# Altium footprint library Connector_PinHeader_2.00mm.PcbLib: 278 footprints (part 9 of 18)
Each footprint in its own frame and in the unit in brackets; x right, y up, seen from the top. Pads: shape width x height; smd on the part's side, far side on the other; paste and mask are expansions set on the pad; w line width, h text height; cw(c..) or ccw(c..) is an arc to the next point about the centre after c.
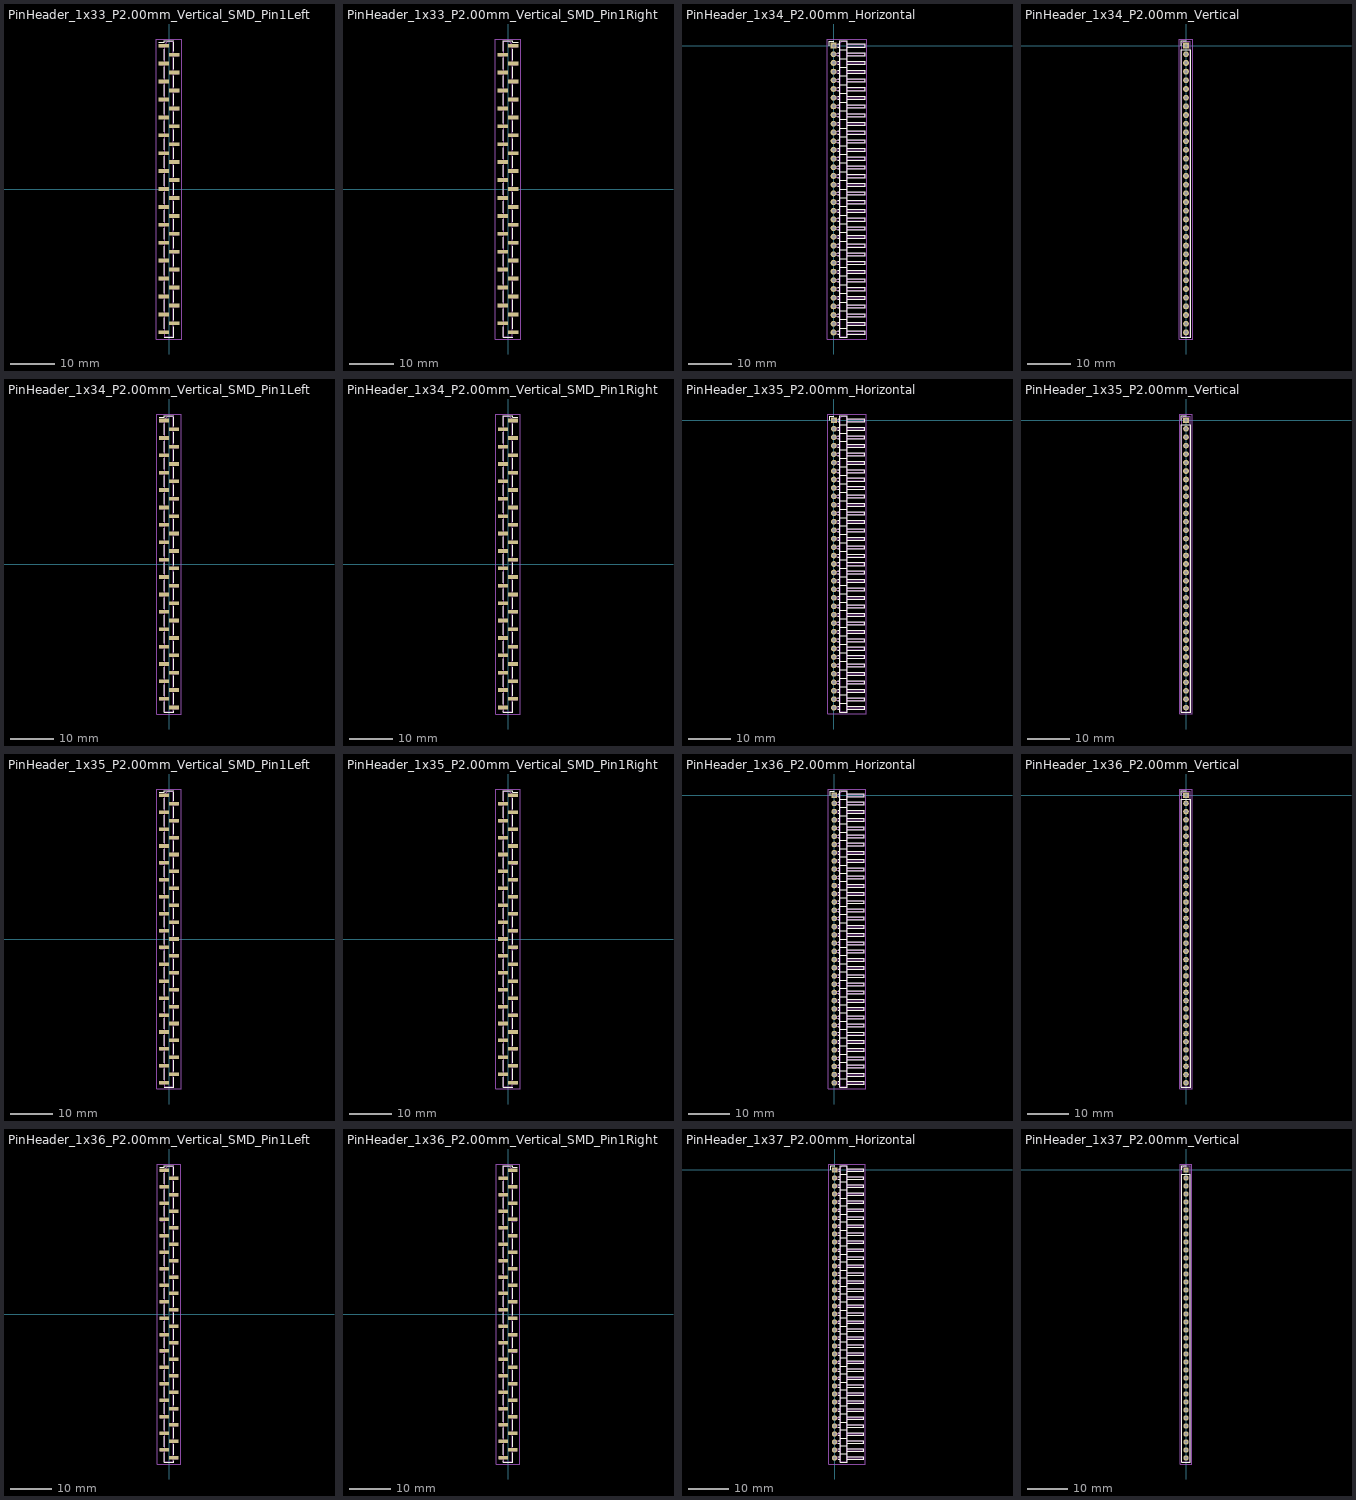
[diagram p8: the footprints below, top view; thin cyan lines are the x and y axes]

## PinHeader_1x33_P2.00mm_Vertical_SMD_Pin1Left [mm]
pads (33):
  rect 2.35x0.85 smd: 1(-1.175,32) 2(1.175,30) 3(-1.175,28) 4(1.175,26) 5(-1.175,24) 6(1.175,22) 7(-1.175,20) 8(1.175,18) 9(-1.175,16) 10(1.175,14) 11(-1.175,12) 12(1.175,10) 13(-1.175,8) 14(1.175,6) 15(-1.175,4) 16(1.175,2) 17(-1.175,0) 18(1.175,-2) 19(-1.175,-4) 20(1.175,-6) 21(-1.175,-8) 22(1.175,-10) 23(-1.175,-12) 24(1.175,-14) 25(-1.175,-16) 26(1.175,-18) 27(-1.175,-20) 28(1.175,-22) 29(-1.175,-24) 30(1.175,-26) 31(-1.175,-28) 32(1.175,-30) 33(-1.175,-32)
F.SilkS:
  lines w0.254: -2.29,32.735 -1.11,32.735 -1.11,33.11 1.11,33.11 ; -1.11,-33.11 1.11,-33.11 ; -1.11,-31.265 -1.11,-28.735 ; -1.11,-27.265 -1.11,-24.735 ; -1.11,-23.265 -1.11,-20.735 ; -1.11,-19.265 -1.11,-16.735 ; -1.11,-15.265 -1.11,-12.735 ; -1.11,-11.265 -1.11,-8.735 ; -1.11,-7.265 -1.11,-4.735 ; -1.11,-3.265 -1.11,-0.735 ; -1.11,0.735 -1.11,3.265 ; -1.11,4.735 -1.11,7.265 ; -1.11,8.735 -1.11,11.265 ; -1.11,12.735 -1.11,15.265 ; -1.11,16.735 -1.11,19.265 ; -1.11,20.735 -1.11,23.265 ; -1.11,24.735 -1.11,27.265 ; -1.11,28.735 -1.11,31.265 ; 1.11,-32.735 1.11,-33.11 ; 1.11,-30.735 1.11,-33.11 ; 1.11,-29.265 1.11,-26.735 ; 1.11,-25.265 1.11,-22.735 ; 1.11,-21.265 1.11,-18.735 ; 1.11,-17.265 1.11,-14.735 ; 1.11,-13.265 1.11,-10.735 ; 1.11,-9.265 1.11,-6.735 ; 1.11,-5.265 1.11,-2.735 ; 1.11,-1.265 1.11,1.265 ; 1.11,2.735 1.11,5.265 ; 1.11,6.735 1.11,9.265 ; 1.11,10.735 1.11,13.265 ; 1.11,14.735 1.11,17.265 ; 1.11,18.735 1.11,21.265 ; 1.11,22.735 1.11,25.265 ; 1.11,26.735 1.11,29.265 ; 1.11,30.735 1.11,32.735
Top Assembly:
  lines w0.254: -1,-32.25 -2.1,-32.25 -2.1,-31.75 -1,-31.75 ; -1,-28.25 -2.1,-28.25 -2.1,-27.75 -1,-27.75 ; -1,-24.25 -2.1,-24.25 -2.1,-23.75 -1,-23.75 ; -1,-20.25 -2.1,-20.25 -2.1,-19.75 -1,-19.75 ; -1,-16.25 -2.1,-16.25 -2.1,-15.75 -1,-15.75 ; -1,-12.25 -2.1,-12.25 -2.1,-11.75 -1,-11.75 ; -1,-8.25 -2.1,-8.25 -2.1,-7.75 -1,-7.75 ; -1,-4.25 -2.1,-4.25 -2.1,-3.75 -1,-3.75 ; -1,-0.25 -2.1,-0.25 -2.1,0.25 -1,0.25 ; -1,3.75 -2.1,3.75 -2.1,4.25 -1,4.25 ; -1,7.75 -2.1,7.75 -2.1,8.25 -1,8.25 ; -1,11.75 -2.1,11.75 -2.1,12.25 -1,12.25 ; -1,15.75 -2.1,15.75 -2.1,16.25 -1,16.25 ; -1,19.75 -2.1,19.75 -2.1,20.25 -1,20.25 ; -1,23.75 -2.1,23.75 -2.1,24.25 -1,24.25 ; -1,27.75 -2.1,27.75 -2.1,28.25 -1,28.25 ; -1,31.75 -2.1,31.75 -2.1,32.25 -1,32.25 ; 1,-30.25 2.1,-30.25 2.1,-29.75 1,-29.75 ; 1,-26.25 2.1,-26.25 2.1,-25.75 1,-25.75 ; 1,-22.25 2.1,-22.25 2.1,-21.75 1,-21.75 ; 1,-18.25 2.1,-18.25 2.1,-17.75 1,-17.75 ; 1,-14.25 2.1,-14.25 2.1,-13.75 1,-13.75 ; 1,-10.25 2.1,-10.25 2.1,-9.75 1,-9.75 ; 1,-6.25 2.1,-6.25 2.1,-5.75 1,-5.75 ; 1,-2.25 2.1,-2.25 2.1,-1.75 1,-1.75 ; 1,1.75 2.1,1.75 2.1,2.25 1,2.25 ; 1,5.75 2.1,5.75 2.1,6.25 1,6.25 ; 1,9.75 2.1,9.75 2.1,10.25 1,10.25 ; 1,13.75 2.1,13.75 2.1,14.25 1,14.25 ; 1,17.75 2.1,17.75 2.1,18.25 1,18.25 ; 1,21.75 2.1,21.75 2.1,22.25 1,22.25 ; 1,25.75 2.1,25.75 2.1,26.25 1,26.25 ; 1,29.75 2.1,29.75 2.1,30.25 1,30.25 ; -1,32.25 -1,-33 1,-33 1,33 -0.25,33 -1,32.25
  text "'.Designator'" at 0.84,-4.047 h1
Top Courtyard:
  lines w0.254: -2.85,-33.5 2.85,-33.5 2.85,33.5 -2.85,33.5 -2.85,-33.5
Top Designator:
  text ".Designator" at -7.618,-0.508 h1.52

## PinHeader_1x33_P2.00mm_Vertical_SMD_Pin1Right [mm]
pads (33):
  rect 2.35x0.85 smd: 1(1.175,32) 2(-1.175,30) 3(1.175,28) 4(-1.175,26) 5(1.175,24) 6(-1.175,22) 7(1.175,20) 8(-1.175,18) 9(1.175,16) 10(-1.175,14) 11(1.175,12) 12(-1.175,10) 13(1.175,8) 14(-1.175,6) 15(1.175,4) 16(-1.175,2) 17(1.175,0) 18(-1.175,-2) 19(1.175,-4) 20(-1.175,-6) 21(1.175,-8) 22(-1.175,-10) 23(1.175,-12) 24(-1.175,-14) 25(1.175,-16) 26(-1.175,-18) 27(1.175,-20) 28(-1.175,-22) 29(1.175,-24) 30(-1.175,-26) 31(1.175,-28) 32(-1.175,-30) 33(1.175,-32)
F.SilkS:
  lines w0.254: -1.11,-32.735 -1.11,-33.11 ; -1.11,-30.735 -1.11,-33.11 ; -1.11,-29.265 -1.11,-26.735 ; -1.11,-25.265 -1.11,-22.735 ; -1.11,-21.265 -1.11,-18.735 ; -1.11,-17.265 -1.11,-14.735 ; -1.11,-13.265 -1.11,-10.735 ; -1.11,-9.265 -1.11,-6.735 ; -1.11,-5.265 -1.11,-2.735 ; -1.11,-1.265 -1.11,1.265 ; -1.11,2.735 -1.11,5.265 ; -1.11,6.735 -1.11,9.265 ; -1.11,10.735 -1.11,13.265 ; -1.11,14.735 -1.11,17.265 ; -1.11,18.735 -1.11,21.265 ; -1.11,22.735 -1.11,25.265 ; -1.11,26.735 -1.11,29.265 ; -1.11,32.735 -1.11,30.735 -1.11,33.11 1.11,33.11 1.11,32.735 2.29,32.735 ; 1.11,-33.11 -1.11,-33.11 ; 1.11,-31.265 1.11,-28.735 ; 1.11,-27.265 1.11,-24.735 ; 1.11,-23.265 1.11,-20.735 ; 1.11,-19.265 1.11,-16.735 ; 1.11,-15.265 1.11,-12.735 ; 1.11,-11.265 1.11,-8.735 ; 1.11,-7.265 1.11,-4.735 ; 1.11,-3.265 1.11,-0.735 ; 1.11,0.735 1.11,3.265 ; 1.11,4.735 1.11,7.265 ; 1.11,8.735 1.11,11.265 ; 1.11,12.735 1.11,15.265 ; 1.11,16.735 1.11,19.265 ; 1.11,20.735 1.11,23.265 ; 1.11,24.735 1.11,27.265 ; 1.11,28.735 1.11,31.265
Top Assembly:
  lines w0.254: -1,-30.25 -2.1,-30.25 -2.1,-29.75 -1,-29.75 ; -1,-26.25 -2.1,-26.25 -2.1,-25.75 -1,-25.75 ; -1,-22.25 -2.1,-22.25 -2.1,-21.75 -1,-21.75 ; -1,-18.25 -2.1,-18.25 -2.1,-17.75 -1,-17.75 ; -1,-14.25 -2.1,-14.25 -2.1,-13.75 -1,-13.75 ; -1,-10.25 -2.1,-10.25 -2.1,-9.75 -1,-9.75 ; -1,-6.25 -2.1,-6.25 -2.1,-5.75 -1,-5.75 ; -1,-2.25 -2.1,-2.25 -2.1,-1.75 -1,-1.75 ; -1,1.75 -2.1,1.75 -2.1,2.25 -1,2.25 ; -1,5.75 -2.1,5.75 -2.1,6.25 -1,6.25 ; -1,9.75 -2.1,9.75 -2.1,10.25 -1,10.25 ; -1,13.75 -2.1,13.75 -2.1,14.25 -1,14.25 ; -1,17.75 -2.1,17.75 -2.1,18.25 -1,18.25 ; -1,21.75 -2.1,21.75 -2.1,22.25 -1,22.25 ; -1,25.75 -2.1,25.75 -2.1,26.25 -1,26.25 ; -1,29.75 -2.1,29.75 -2.1,30.25 -1,30.25 ; 1,-32.25 2.1,-32.25 2.1,-31.75 1,-31.75 ; 1,-28.25 2.1,-28.25 2.1,-27.75 1,-27.75 ; 1,-24.25 2.1,-24.25 2.1,-23.75 1,-23.75 ; 1,-20.25 2.1,-20.25 2.1,-19.75 1,-19.75 ; 1,-16.25 2.1,-16.25 2.1,-15.75 1,-15.75 ; 1,-12.25 2.1,-12.25 2.1,-11.75 1,-11.75 ; 1,-8.25 2.1,-8.25 2.1,-7.75 1,-7.75 ; 1,-4.25 2.1,-4.25 2.1,-3.75 1,-3.75 ; 1,-0.25 2.1,-0.25 2.1,0.25 1,0.25 ; 1,3.75 2.1,3.75 2.1,4.25 1,4.25 ; 1,7.75 2.1,7.75 2.1,8.25 1,8.25 ; 1,11.75 2.1,11.75 2.1,12.25 1,12.25 ; 1,15.75 2.1,15.75 2.1,16.25 1,16.25 ; 1,19.75 2.1,19.75 2.1,20.25 1,20.25 ; 1,23.75 2.1,23.75 2.1,24.25 1,24.25 ; 1,27.75 2.1,27.75 2.1,28.25 1,28.25 ; 1,31.75 2.1,31.75 2.1,32.25 1,32.25 ; 1,32.25 1,-33 -1,-33 -1,33 0.25,33 1,32.25
  text "'.Designator'" at 0.84,-4.047 h1
Top Courtyard:
  lines w0.254: -2.85,-33.5 2.85,-33.5 2.85,33.5 -2.85,33.5 -2.85,-33.5
Top Designator:
  text ".Designator" at -7.618,-0.508 h1.52

## PinHeader_1x34_P2.00mm_Horizontal [mm]
pads (34):
  rect 1.35x1.35 hole 0.8: 1(0,0)
  round 1.35 hole 0.8: 2(0,-2) 3(0,-4) 4(0,-6) 5(0,-8) 6(0,-10) 7(0,-12) 8(0,-14) 9(0,-16) 10(0,-18) 11(0,-20) 12(0,-22) 13(0,-24) 14(0,-26) 15(0,-28) 16(0,-30) 17(0,-32) 18(0,-34) 19(0,-36) 20(0,-38) 21(0,-40) 22(0,-42) 23(0,-44) 24(0,-46) 25(0,-48) 26(0,-50) 27(0,-52) 28(0,-54) 29(0,-56) 30(0,-58) 31(0,-60) 32(0,-62) 33(0,-64) 34(0,-66)
F.SilkS:
  drawing of 210 lines, arcs and shapes, not listed
Top Assembly:
  drawing of 209 lines, arcs and shapes, not listed
  text "'.Designator'" at 3.006,-36.642 h0.9
Top Courtyard:
  lines w0.254: -1.5,-67.5 7.7,-67.5 7.7,1.5 -1.5,1.5 -1.5,-67.5
Top Designator:
  text ".Designator" at -4.518,-33.508 h1.52

## PinHeader_1x34_P2.00mm_Vertical [mm]
pads (34):
  rect 1.35x1.35 hole 0.8: 1(0,0)
  round 1.35 hole 0.8: 2(0,-2) 3(0,-4) 4(0,-6) 5(0,-8) 6(0,-10) 7(0,-12) 8(0,-14) 9(0,-16) 10(0,-18) 11(0,-20) 12(0,-22) 13(0,-24) 14(0,-26) 15(0,-28) 16(0,-30) 17(0,-32) 18(0,-34) 19(0,-36) 20(0,-38) 21(0,-40) 22(0,-42) 23(0,-44) 24(0,-46) 25(0,-48) 26(0,-50) 27(0,-52) 28(0,-54) 29(0,-56) 30(0,-58) 31(0,-60) 32(0,-62) 33(0,-64) 34(0,-66)
F.SilkS:
  lines w0.254: -1.11,0 -1.11,1.11 0,1.11 ; -1.11,-67.11 1.11,-67.11 1.11,-1 -1.11,-1 -1.11,-67.11
Top Assembly:
  lines w0.254: -1,-67 1,-67 1,1 -0.5,1 -1,0.5 -1,-67
  text "'.Designator'" at 0.84,-37.047 h1
Top Courtyard:
  lines w0.254: -1.5,-67.5 1.5,-67.5 1.5,1.5 -1.5,1.5 -1.5,-67.5
Top Designator:
  text ".Designator" at -7.618,-33.508 h1.52

## PinHeader_1x34_P2.00mm_Vertical_SMD_Pin1Left [mm]
pads (34):
  rect 2.35x0.85 smd: 1(-1.175,33) 2(1.175,31) 3(-1.175,29) 4(1.175,27) 5(-1.175,25) 6(1.175,23) 7(-1.175,21) 8(1.175,19) 9(-1.175,17) 10(1.175,15) 11(-1.175,13) 12(1.175,11) 13(-1.175,9) 14(1.175,7) 15(-1.175,5) 16(1.175,3) 17(-1.175,1) 18(1.175,-1) 19(-1.175,-3) 20(1.175,-5) 21(-1.175,-7) 22(1.175,-9) 23(-1.175,-11) 24(1.175,-13) 25(-1.175,-15) 26(1.175,-17) 27(-1.175,-19) 28(1.175,-21) 29(-1.175,-23) 30(1.175,-25) 31(-1.175,-27) 32(1.175,-29) 33(-1.175,-31) 34(1.175,-33)
F.SilkS:
  lines w0.254: -2.29,33.735 -1.11,33.735 -1.11,34.11 1.11,34.11 ; -1.11,-31.735 -1.11,-34.11 1.11,-34.11 1.11,-33.735 ; -1.11,-30.265 -1.11,-27.735 ; -1.11,-26.265 -1.11,-23.735 ; -1.11,-22.265 -1.11,-19.735 ; -1.11,-18.265 -1.11,-15.735 ; -1.11,-14.265 -1.11,-11.735 ; -1.11,-10.265 -1.11,-7.735 ; -1.11,-6.265 -1.11,-3.735 ; -1.11,-2.265 -1.11,0.265 ; -1.11,1.735 -1.11,4.265 ; -1.11,5.735 -1.11,8.265 ; -1.11,9.735 -1.11,12.265 ; -1.11,13.735 -1.11,16.265 ; -1.11,17.735 -1.11,20.265 ; -1.11,21.735 -1.11,24.265 ; -1.11,25.735 -1.11,28.265 ; -1.11,29.735 -1.11,32.265 ; 1.11,-32.265 1.11,-29.735 ; 1.11,-28.265 1.11,-25.735 ; 1.11,-24.265 1.11,-21.735 ; 1.11,-20.265 1.11,-17.735 ; 1.11,-16.265 1.11,-13.735 ; 1.11,-12.265 1.11,-9.735 ; 1.11,-8.265 1.11,-5.735 ; 1.11,-4.265 1.11,-1.735 ; 1.11,-0.265 1.11,2.265 ; 1.11,3.735 1.11,6.265 ; 1.11,7.735 1.11,10.265 ; 1.11,11.735 1.11,14.265 ; 1.11,15.735 1.11,18.265 ; 1.11,19.735 1.11,22.265 ; 1.11,23.735 1.11,26.265 ; 1.11,27.735 1.11,30.265 ; 1.11,31.735 1.11,33.735
Top Assembly:
  lines w0.254: -1,-31.25 -2.1,-31.25 -2.1,-30.75 -1,-30.75 ; -1,-27.25 -2.1,-27.25 -2.1,-26.75 -1,-26.75 ; -1,-23.25 -2.1,-23.25 -2.1,-22.75 -1,-22.75 ; -1,-19.25 -2.1,-19.25 -2.1,-18.75 -1,-18.75 ; -1,-15.25 -2.1,-15.25 -2.1,-14.75 -1,-14.75 ; -1,-11.25 -2.1,-11.25 -2.1,-10.75 -1,-10.75 ; -1,-7.25 -2.1,-7.25 -2.1,-6.75 -1,-6.75 ; -1,-3.25 -2.1,-3.25 -2.1,-2.75 -1,-2.75 ; -1,0.75 -2.1,0.75 -2.1,1.25 -1,1.25 ; -1,4.75 -2.1,4.75 -2.1,5.25 -1,5.25 ; -1,8.75 -2.1,8.75 -2.1,9.25 -1,9.25 ; -1,12.75 -2.1,12.75 -2.1,13.25 -1,13.25 ; -1,16.75 -2.1,16.75 -2.1,17.25 -1,17.25 ; -1,20.75 -2.1,20.75 -2.1,21.25 -1,21.25 ; -1,24.75 -2.1,24.75 -2.1,25.25 -1,25.25 ; -1,28.75 -2.1,28.75 -2.1,29.25 -1,29.25 ; -1,32.75 -2.1,32.75 -2.1,33.25 -1,33.25 ; 1,-33.25 2.1,-33.25 2.1,-32.75 1,-32.75 ; 1,-29.25 2.1,-29.25 2.1,-28.75 1,-28.75 ; 1,-25.25 2.1,-25.25 2.1,-24.75 1,-24.75 ; 1,-21.25 2.1,-21.25 2.1,-20.75 1,-20.75 ; 1,-17.25 2.1,-17.25 2.1,-16.75 1,-16.75 ; 1,-13.25 2.1,-13.25 2.1,-12.75 1,-12.75 ; 1,-9.25 2.1,-9.25 2.1,-8.75 1,-8.75 ; 1,-5.25 2.1,-5.25 2.1,-4.75 1,-4.75 ; 1,-1.25 2.1,-1.25 2.1,-0.75 1,-0.75 ; 1,2.75 2.1,2.75 2.1,3.25 1,3.25 ; 1,6.75 2.1,6.75 2.1,7.25 1,7.25 ; 1,10.75 2.1,10.75 2.1,11.25 1,11.25 ; 1,14.75 2.1,14.75 2.1,15.25 1,15.25 ; 1,18.75 2.1,18.75 2.1,19.25 1,19.25 ; 1,22.75 2.1,22.75 2.1,23.25 1,23.25 ; 1,26.75 2.1,26.75 2.1,27.25 1,27.25 ; 1,30.75 2.1,30.75 2.1,31.25 1,31.25 ; -1,33.25 -1,-34 1,-34 1,34 -0.25,34 -1,33.25
  text "'.Designator'" at 0.84,-4.047 h1
Top Courtyard:
  lines w0.254: -2.85,-34.5 2.85,-34.5 2.85,34.5 -2.85,34.5 -2.85,-34.5
Top Designator:
  text ".Designator" at -7.618,-0.508 h1.52

## PinHeader_1x34_P2.00mm_Vertical_SMD_Pin1Right [mm]
pads (34):
  rect 2.35x0.85 smd: 1(1.175,33) 2(-1.175,31) 3(1.175,29) 4(-1.175,27) 5(1.175,25) 6(-1.175,23) 7(1.175,21) 8(-1.175,19) 9(1.175,17) 10(-1.175,15) 11(1.175,13) 12(-1.175,11) 13(1.175,9) 14(-1.175,7) 15(1.175,5) 16(-1.175,3) 17(1.175,1) 18(-1.175,-1) 19(1.175,-3) 20(-1.175,-5) 21(1.175,-7) 22(-1.175,-9) 23(1.175,-11) 24(-1.175,-13) 25(1.175,-15) 26(-1.175,-17) 27(1.175,-19) 28(-1.175,-21) 29(1.175,-23) 30(-1.175,-25) 31(1.175,-27) 32(-1.175,-29) 33(1.175,-31) 34(-1.175,-33)
F.SilkS:
  lines w0.254: -1.11,-33.735 -1.11,-34.11 1.11,-34.11 1.11,-31.735 ; -1.11,-32.265 -1.11,-29.735 ; -1.11,-28.265 -1.11,-25.735 ; -1.11,-24.265 -1.11,-21.735 ; -1.11,-20.265 -1.11,-17.735 ; -1.11,-16.265 -1.11,-13.735 ; -1.11,-12.265 -1.11,-9.735 ; -1.11,-8.265 -1.11,-5.735 ; -1.11,-4.265 -1.11,-1.735 ; -1.11,-0.265 -1.11,2.265 ; -1.11,3.735 -1.11,6.265 ; -1.11,7.735 -1.11,10.265 ; -1.11,11.735 -1.11,14.265 ; -1.11,15.735 -1.11,18.265 ; -1.11,19.735 -1.11,22.265 ; -1.11,23.735 -1.11,26.265 ; -1.11,27.735 -1.11,30.265 ; -1.11,33.735 -1.11,31.735 -1.11,34.11 1.11,34.11 1.11,33.735 2.29,33.735 ; 1.11,-30.265 1.11,-27.735 ; 1.11,-26.265 1.11,-23.735 ; 1.11,-22.265 1.11,-19.735 ; 1.11,-18.265 1.11,-15.735 ; 1.11,-14.265 1.11,-11.735 ; 1.11,-10.265 1.11,-7.735 ; 1.11,-6.265 1.11,-3.735 ; 1.11,-2.265 1.11,0.265 ; 1.11,1.735 1.11,4.265 ; 1.11,5.735 1.11,8.265 ; 1.11,9.735 1.11,12.265 ; 1.11,13.735 1.11,16.265 ; 1.11,17.735 1.11,20.265 ; 1.11,21.735 1.11,24.265 ; 1.11,25.735 1.11,28.265 ; 1.11,29.735 1.11,32.265
Top Assembly:
  lines w0.254: -1,-33.25 -2.1,-33.25 -2.1,-32.75 -1,-32.75 ; -1,-29.25 -2.1,-29.25 -2.1,-28.75 -1,-28.75 ; -1,-25.25 -2.1,-25.25 -2.1,-24.75 -1,-24.75 ; -1,-21.25 -2.1,-21.25 -2.1,-20.75 -1,-20.75 ; -1,-17.25 -2.1,-17.25 -2.1,-16.75 -1,-16.75 ; -1,-13.25 -2.1,-13.25 -2.1,-12.75 -1,-12.75 ; -1,-9.25 -2.1,-9.25 -2.1,-8.75 -1,-8.75 ; -1,-5.25 -2.1,-5.25 -2.1,-4.75 -1,-4.75 ; -1,-1.25 -2.1,-1.25 -2.1,-0.75 -1,-0.75 ; -1,2.75 -2.1,2.75 -2.1,3.25 -1,3.25 ; -1,6.75 -2.1,6.75 -2.1,7.25 -1,7.25 ; -1,10.75 -2.1,10.75 -2.1,11.25 -1,11.25 ; -1,14.75 -2.1,14.75 -2.1,15.25 -1,15.25 ; -1,18.75 -2.1,18.75 -2.1,19.25 -1,19.25 ; -1,22.75 -2.1,22.75 -2.1,23.25 -1,23.25 ; -1,26.75 -2.1,26.75 -2.1,27.25 -1,27.25 ; -1,30.75 -2.1,30.75 -2.1,31.25 -1,31.25 ; 1,-31.25 2.1,-31.25 2.1,-30.75 1,-30.75 ; 1,-27.25 2.1,-27.25 2.1,-26.75 1,-26.75 ; 1,-23.25 2.1,-23.25 2.1,-22.75 1,-22.75 ; 1,-19.25 2.1,-19.25 2.1,-18.75 1,-18.75 ; 1,-15.25 2.1,-15.25 2.1,-14.75 1,-14.75 ; 1,-11.25 2.1,-11.25 2.1,-10.75 1,-10.75 ; 1,-7.25 2.1,-7.25 2.1,-6.75 1,-6.75 ; 1,-3.25 2.1,-3.25 2.1,-2.75 1,-2.75 ; 1,0.75 2.1,0.75 2.1,1.25 1,1.25 ; 1,4.75 2.1,4.75 2.1,5.25 1,5.25 ; 1,8.75 2.1,8.75 2.1,9.25 1,9.25 ; 1,12.75 2.1,12.75 2.1,13.25 1,13.25 ; 1,16.75 2.1,16.75 2.1,17.25 1,17.25 ; 1,20.75 2.1,20.75 2.1,21.25 1,21.25 ; 1,24.75 2.1,24.75 2.1,25.25 1,25.25 ; 1,28.75 2.1,28.75 2.1,29.25 1,29.25 ; 1,32.75 2.1,32.75 2.1,33.25 1,33.25 ; 1,33.25 1,-34 -1,-34 -1,34 0.25,34 1,33.25
  text "'.Designator'" at 0.84,-4.047 h1
Top Courtyard:
  lines w0.254: -2.85,-34.5 2.85,-34.5 2.85,34.5 -2.85,34.5 -2.85,-34.5
Top Designator:
  text ".Designator" at -7.618,-0.508 h1.52

## PinHeader_1x35_P2.00mm_Horizontal [mm]
pads (35):
  rect 1.35x1.35 hole 0.8: 1(0,0)
  round 1.35 hole 0.8: 2(0,-2) 3(0,-4) 4(0,-6) 5(0,-8) 6(0,-10) 7(0,-12) 8(0,-14) 9(0,-16) 10(0,-18) 11(0,-20) 12(0,-22) 13(0,-24) 14(0,-26) 15(0,-28) 16(0,-30) 17(0,-32) 18(0,-34) 19(0,-36) 20(0,-38) 21(0,-40) 22(0,-42) 23(0,-44) 24(0,-46) 25(0,-48) 26(0,-50) 27(0,-52) 28(0,-54) 29(0,-56) 30(0,-58) 31(0,-60) 32(0,-62) 33(0,-64) 34(0,-66) 35(0,-68)
F.SilkS:
  drawing of 216 lines, arcs and shapes, not listed
Top Assembly:
  drawing of 215 lines, arcs and shapes, not listed
  text "'.Designator'" at 3.006,-37.642 h0.9
Top Courtyard:
  lines w0.254: -1.5,-69.5 7.7,-69.5 7.7,1.5 -1.5,1.5 -1.5,-69.5
Top Designator:
  text ".Designator" at -4.518,-34.508 h1.52

## PinHeader_1x35_P2.00mm_Vertical [mm]
pads (35):
  rect 1.35x1.35 hole 0.8: 1(0,0)
  round 1.35 hole 0.8: 2(0,-2) 3(0,-4) 4(0,-6) 5(0,-8) 6(0,-10) 7(0,-12) 8(0,-14) 9(0,-16) 10(0,-18) 11(0,-20) 12(0,-22) 13(0,-24) 14(0,-26) 15(0,-28) 16(0,-30) 17(0,-32) 18(0,-34) 19(0,-36) 20(0,-38) 21(0,-40) 22(0,-42) 23(0,-44) 24(0,-46) 25(0,-48) 26(0,-50) 27(0,-52) 28(0,-54) 29(0,-56) 30(0,-58) 31(0,-60) 32(0,-62) 33(0,-64) 34(0,-66) 35(0,-68)
F.SilkS:
  lines w0.254: -1.11,0 -1.11,1.11 0,1.11 ; -1.11,-69.11 1.11,-69.11 1.11,-1 -1.11,-1 -1.11,-69.11
Top Assembly:
  lines w0.254: -1,-69 1,-69 1,1 -0.5,1 -1,0.5 -1,-69
  text "'.Designator'" at 0.84,-38.047 h1
Top Courtyard:
  lines w0.254: -1.5,-69.5 1.5,-69.5 1.5,1.5 -1.5,1.5 -1.5,-69.5
Top Designator:
  text ".Designator" at -7.618,-34.508 h1.52

## PinHeader_1x35_P2.00mm_Vertical_SMD_Pin1Left [mm]
pads (35):
  rect 2.35x0.85 smd: 1(-1.175,34) 2(1.175,32) 3(-1.175,30) 4(1.175,28) 5(-1.175,26) 6(1.175,24) 7(-1.175,22) 8(1.175,20) 9(-1.175,18) 10(1.175,16) 11(-1.175,14) 12(1.175,12) 13(-1.175,10) 14(1.175,8) 15(-1.175,6) 16(1.175,4) 17(-1.175,2) 18(1.175,0) 19(-1.175,-2) 20(1.175,-4) 21(-1.175,-6) 22(1.175,-8) 23(-1.175,-10) 24(1.175,-12) 25(-1.175,-14) 26(1.175,-16) 27(-1.175,-18) 28(1.175,-20) 29(-1.175,-22) 30(1.175,-24) 31(-1.175,-26) 32(1.175,-28) 33(-1.175,-30) 34(1.175,-32) 35(-1.175,-34)
F.SilkS:
  lines w0.254: -2.29,34.735 -1.11,34.735 -1.11,35.11 1.11,35.11 ; -1.11,-35.11 1.11,-35.11 ; -1.11,-33.265 -1.11,-30.735 ; -1.11,-29.265 -1.11,-26.735 ; -1.11,-25.265 -1.11,-22.735 ; -1.11,-21.265 -1.11,-18.735 ; -1.11,-17.265 -1.11,-14.735 ; -1.11,-13.265 -1.11,-10.735 ; -1.11,-9.265 -1.11,-6.735 ; -1.11,-5.265 -1.11,-2.735 ; -1.11,-1.265 -1.11,1.265 ; -1.11,2.735 -1.11,5.265 ; -1.11,6.735 -1.11,9.265 ; -1.11,10.735 -1.11,13.265 ; -1.11,14.735 -1.11,17.265 ; -1.11,18.735 -1.11,21.265 ; -1.11,22.735 -1.11,25.265 ; -1.11,26.735 -1.11,29.265 ; -1.11,30.735 -1.11,33.265 ; 1.11,-34.735 1.11,-35.11 ; 1.11,-32.735 1.11,-35.11 ; 1.11,-31.265 1.11,-28.735 ; 1.11,-27.265 1.11,-24.735 ; 1.11,-23.265 1.11,-20.735 ; 1.11,-19.265 1.11,-16.735 ; 1.11,-15.265 1.11,-12.735 ; 1.11,-11.265 1.11,-8.735 ; 1.11,-7.265 1.11,-4.735 ; 1.11,-3.265 1.11,-0.735 ; 1.11,0.735 1.11,3.265 ; 1.11,4.735 1.11,7.265 ; 1.11,8.735 1.11,11.265 ; 1.11,12.735 1.11,15.265 ; 1.11,16.735 1.11,19.265 ; 1.11,20.735 1.11,23.265 ; 1.11,24.735 1.11,27.265 ; 1.11,28.735 1.11,31.265 ; 1.11,32.735 1.11,34.735
Top Assembly:
  lines w0.254: -1,-34.25 -2.1,-34.25 -2.1,-33.75 -1,-33.75 ; -1,-30.25 -2.1,-30.25 -2.1,-29.75 -1,-29.75 ; -1,-26.25 -2.1,-26.25 -2.1,-25.75 -1,-25.75 ; -1,-22.25 -2.1,-22.25 -2.1,-21.75 -1,-21.75 ; -1,-18.25 -2.1,-18.25 -2.1,-17.75 -1,-17.75 ; -1,-14.25 -2.1,-14.25 -2.1,-13.75 -1,-13.75 ; -1,-10.25 -2.1,-10.25 -2.1,-9.75 -1,-9.75 ; -1,-6.25 -2.1,-6.25 -2.1,-5.75 -1,-5.75 ; -1,-2.25 -2.1,-2.25 -2.1,-1.75 -1,-1.75 ; -1,1.75 -2.1,1.75 -2.1,2.25 -1,2.25 ; -1,5.75 -2.1,5.75 -2.1,6.25 -1,6.25 ; -1,9.75 -2.1,9.75 -2.1,10.25 -1,10.25 ; -1,13.75 -2.1,13.75 -2.1,14.25 -1,14.25 ; -1,17.75 -2.1,17.75 -2.1,18.25 -1,18.25 ; -1,21.75 -2.1,21.75 -2.1,22.25 -1,22.25 ; -1,25.75 -2.1,25.75 -2.1,26.25 -1,26.25 ; -1,29.75 -2.1,29.75 -2.1,30.25 -1,30.25 ; -1,33.75 -2.1,33.75 -2.1,34.25 -1,34.25 ; 1,-32.25 2.1,-32.25 2.1,-31.75 1,-31.75 ; 1,-28.25 2.1,-28.25 2.1,-27.75 1,-27.75 ; 1,-24.25 2.1,-24.25 2.1,-23.75 1,-23.75 ; 1,-20.25 2.1,-20.25 2.1,-19.75 1,-19.75 ; 1,-16.25 2.1,-16.25 2.1,-15.75 1,-15.75 ; 1,-12.25 2.1,-12.25 2.1,-11.75 1,-11.75 ; 1,-8.25 2.1,-8.25 2.1,-7.75 1,-7.75 ; 1,-4.25 2.1,-4.25 2.1,-3.75 1,-3.75 ; 1,-0.25 2.1,-0.25 2.1,0.25 1,0.25 ; 1,3.75 2.1,3.75 2.1,4.25 1,4.25 ; 1,7.75 2.1,7.75 2.1,8.25 1,8.25 ; 1,11.75 2.1,11.75 2.1,12.25 1,12.25 ; 1,15.75 2.1,15.75 2.1,16.25 1,16.25 ; 1,19.75 2.1,19.75 2.1,20.25 1,20.25 ; 1,23.75 2.1,23.75 2.1,24.25 1,24.25 ; 1,27.75 2.1,27.75 2.1,28.25 1,28.25 ; 1,31.75 2.1,31.75 2.1,32.25 1,32.25 ; -1,34.25 -1,-35 1,-35 1,35 -0.25,35 -1,34.25
  text "'.Designator'" at 0.84,-4.047 h1
Top Courtyard:
  lines w0.254: -2.85,-35.5 2.85,-35.5 2.85,35.5 -2.85,35.5 -2.85,-35.5
Top Designator:
  text ".Designator" at -7.618,-0.508 h1.52

## PinHeader_1x35_P2.00mm_Vertical_SMD_Pin1Right [mm]
pads (35):
  rect 2.35x0.85 smd: 1(1.175,34) 2(-1.175,32) 3(1.175,30) 4(-1.175,28) 5(1.175,26) 6(-1.175,24) 7(1.175,22) 8(-1.175,20) 9(1.175,18) 10(-1.175,16) 11(1.175,14) 12(-1.175,12) 13(1.175,10) 14(-1.175,8) 15(1.175,6) 16(-1.175,4) 17(1.175,2) 18(-1.175,0) 19(1.175,-2) 20(-1.175,-4) 21(1.175,-6) 22(-1.175,-8) 23(1.175,-10) 24(-1.175,-12) 25(1.175,-14) 26(-1.175,-16) 27(1.175,-18) 28(-1.175,-20) 29(1.175,-22) 30(-1.175,-24) 31(1.175,-26) 32(-1.175,-28) 33(1.175,-30) 34(-1.175,-32) 35(1.175,-34)
F.SilkS:
  lines w0.254: -1.11,-34.735 -1.11,-35.11 ; -1.11,-32.735 -1.11,-35.11 ; -1.11,-31.265 -1.11,-28.735 ; -1.11,-27.265 -1.11,-24.735 ; -1.11,-23.265 -1.11,-20.735 ; -1.11,-19.265 -1.11,-16.735 ; -1.11,-15.265 -1.11,-12.735 ; -1.11,-11.265 -1.11,-8.735 ; -1.11,-7.265 -1.11,-4.735 ; -1.11,-3.265 -1.11,-0.735 ; -1.11,0.735 -1.11,3.265 ; -1.11,4.735 -1.11,7.265 ; -1.11,8.735 -1.11,11.265 ; -1.11,12.735 -1.11,15.265 ; -1.11,16.735 -1.11,19.265 ; -1.11,20.735 -1.11,23.265 ; -1.11,24.735 -1.11,27.265 ; -1.11,28.735 -1.11,31.265 ; -1.11,34.735 -1.11,32.735 -1.11,35.11 1.11,35.11 1.11,34.735 2.29,34.735 ; 1.11,-35.11 -1.11,-35.11 ; 1.11,-33.265 1.11,-30.735 ; 1.11,-29.265 1.11,-26.735 ; 1.11,-25.265 1.11,-22.735 ; 1.11,-21.265 1.11,-18.735 ; 1.11,-17.265 1.11,-14.735 ; 1.11,-13.265 1.11,-10.735 ; 1.11,-9.265 1.11,-6.735 ; 1.11,-5.265 1.11,-2.735 ; 1.11,-1.265 1.11,1.265 ; 1.11,2.735 1.11,5.265 ; 1.11,6.735 1.11,9.265 ; 1.11,10.735 1.11,13.265 ; 1.11,14.735 1.11,17.265 ; 1.11,18.735 1.11,21.265 ; 1.11,22.735 1.11,25.265 ; 1.11,26.735 1.11,29.265 ; 1.11,30.735 1.11,33.265
Top Assembly:
  lines w0.254: -1,-32.25 -2.1,-32.25 -2.1,-31.75 -1,-31.75 ; -1,-28.25 -2.1,-28.25 -2.1,-27.75 -1,-27.75 ; -1,-24.25 -2.1,-24.25 -2.1,-23.75 -1,-23.75 ; -1,-20.25 -2.1,-20.25 -2.1,-19.75 -1,-19.75 ; -1,-16.25 -2.1,-16.25 -2.1,-15.75 -1,-15.75 ; -1,-12.25 -2.1,-12.25 -2.1,-11.75 -1,-11.75 ; -1,-8.25 -2.1,-8.25 -2.1,-7.75 -1,-7.75 ; -1,-4.25 -2.1,-4.25 -2.1,-3.75 -1,-3.75 ; -1,-0.25 -2.1,-0.25 -2.1,0.25 -1,0.25 ; -1,3.75 -2.1,3.75 -2.1,4.25 -1,4.25 ; -1,7.75 -2.1,7.75 -2.1,8.25 -1,8.25 ; -1,11.75 -2.1,11.75 -2.1,12.25 -1,12.25 ; -1,15.75 -2.1,15.75 -2.1,16.25 -1,16.25 ; -1,19.75 -2.1,19.75 -2.1,20.25 -1,20.25 ; -1,23.75 -2.1,23.75 -2.1,24.25 -1,24.25 ; -1,27.75 -2.1,27.75 -2.1,28.25 -1,28.25 ; -1,31.75 -2.1,31.75 -2.1,32.25 -1,32.25 ; 1,-34.25 2.1,-34.25 2.1,-33.75 1,-33.75 ; 1,-30.25 2.1,-30.25 2.1,-29.75 1,-29.75 ; 1,-26.25 2.1,-26.25 2.1,-25.75 1,-25.75 ; 1,-22.25 2.1,-22.25 2.1,-21.75 1,-21.75 ; 1,-18.25 2.1,-18.25 2.1,-17.75 1,-17.75 ; 1,-14.25 2.1,-14.25 2.1,-13.75 1,-13.75 ; 1,-10.25 2.1,-10.25 2.1,-9.75 1,-9.75 ; 1,-6.25 2.1,-6.25 2.1,-5.75 1,-5.75 ; 1,-2.25 2.1,-2.25 2.1,-1.75 1,-1.75 ; 1,1.75 2.1,1.75 2.1,2.25 1,2.25 ; 1,5.75 2.1,5.75 2.1,6.25 1,6.25 ; 1,9.75 2.1,9.75 2.1,10.25 1,10.25 ; 1,13.75 2.1,13.75 2.1,14.25 1,14.25 ; 1,17.75 2.1,17.75 2.1,18.25 1,18.25 ; 1,21.75 2.1,21.75 2.1,22.25 1,22.25 ; 1,25.75 2.1,25.75 2.1,26.25 1,26.25 ; 1,29.75 2.1,29.75 2.1,30.25 1,30.25 ; 1,33.75 2.1,33.75 2.1,34.25 1,34.25 ; 1,34.25 1,-35 -1,-35 -1,35 0.25,35 1,34.25
  text "'.Designator'" at 0.84,-4.047 h1
Top Courtyard:
  lines w0.254: -2.85,-35.5 2.85,-35.5 2.85,35.5 -2.85,35.5 -2.85,-35.5
Top Designator:
  text ".Designator" at -7.618,-0.508 h1.52

## PinHeader_1x36_P2.00mm_Horizontal [mm]
pads (36):
  rect 1.35x1.35 hole 0.8: 1(0,0)
  round 1.35 hole 0.8: 2(0,-2) 3(0,-4) 4(0,-6) 5(0,-8) 6(0,-10) 7(0,-12) 8(0,-14) 9(0,-16) 10(0,-18) 11(0,-20) 12(0,-22) 13(0,-24) 14(0,-26) 15(0,-28) 16(0,-30) 17(0,-32) 18(0,-34) 19(0,-36) 20(0,-38) 21(0,-40) 22(0,-42) 23(0,-44) 24(0,-46) 25(0,-48) 26(0,-50) 27(0,-52) 28(0,-54) 29(0,-56) 30(0,-58) 31(0,-60) 32(0,-62) 33(0,-64) 34(0,-66) 35(0,-68) 36(0,-70)
F.SilkS:
  drawing of 222 lines, arcs and shapes, not listed
Top Assembly:
  drawing of 221 lines, arcs and shapes, not listed
  text "'.Designator'" at 3.006,-38.642 h0.9
Top Courtyard:
  lines w0.254: -1.5,-71.5 7.7,-71.5 7.7,1.5 -1.5,1.5 -1.5,-71.5
Top Designator:
  text ".Designator" at -4.518,-35.508 h1.52

## PinHeader_1x36_P2.00mm_Vertical [mm]
pads (36):
  rect 1.35x1.35 hole 0.8: 1(0,0)
  round 1.35 hole 0.8: 2(0,-2) 3(0,-4) 4(0,-6) 5(0,-8) 6(0,-10) 7(0,-12) 8(0,-14) 9(0,-16) 10(0,-18) 11(0,-20) 12(0,-22) 13(0,-24) 14(0,-26) 15(0,-28) 16(0,-30) 17(0,-32) 18(0,-34) 19(0,-36) 20(0,-38) 21(0,-40) 22(0,-42) 23(0,-44) 24(0,-46) 25(0,-48) 26(0,-50) 27(0,-52) 28(0,-54) 29(0,-56) 30(0,-58) 31(0,-60) 32(0,-62) 33(0,-64) 34(0,-66) 35(0,-68) 36(0,-70)
F.SilkS:
  lines w0.254: -1.11,0 -1.11,1.11 0,1.11 ; -1.11,-71.11 1.11,-71.11 1.11,-1 -1.11,-1 -1.11,-71.11
Top Assembly:
  lines w0.254: -1,-71 1,-71 1,1 -0.5,1 -1,0.5 -1,-71
  text "'.Designator'" at 0.84,-39.047 h1
Top Courtyard:
  lines w0.254: -1.5,-71.5 1.5,-71.5 1.5,1.5 -1.5,1.5 -1.5,-71.5
Top Designator:
  text ".Designator" at -7.618,-35.508 h1.52

## PinHeader_1x36_P2.00mm_Vertical_SMD_Pin1Left [mm]
pads (36):
  rect 2.35x0.85 smd: 1(-1.175,35) 2(1.175,33) 3(-1.175,31) 4(1.175,29) 5(-1.175,27) 6(1.175,25) 7(-1.175,23) 8(1.175,21) 9(-1.175,19) 10(1.175,17) 11(-1.175,15) 12(1.175,13) 13(-1.175,11) 14(1.175,9) 15(-1.175,7) 16(1.175,5) 17(-1.175,3) 18(1.175,1) 19(-1.175,-1) 20(1.175,-3) 21(-1.175,-5) 22(1.175,-7) 23(-1.175,-9) 24(1.175,-11) 25(-1.175,-13) 26(1.175,-15) 27(-1.175,-17) 28(1.175,-19) 29(-1.175,-21) 30(1.175,-23) 31(-1.175,-25) 32(1.175,-27) 33(-1.175,-29) 34(1.175,-31) 35(-1.175,-33) 36(1.175,-35)
F.SilkS:
  lines w0.254: -2.29,35.735 -1.11,35.735 -1.11,36.11 1.11,36.11 ; -1.11,-33.735 -1.11,-36.11 1.11,-36.11 1.11,-35.735 ; -1.11,-32.265 -1.11,-29.735 ; -1.11,-28.265 -1.11,-25.735 ; -1.11,-24.265 -1.11,-21.735 ; -1.11,-20.265 -1.11,-17.735 ; -1.11,-16.265 -1.11,-13.735 ; -1.11,-12.265 -1.11,-9.735 ; -1.11,-8.265 -1.11,-5.735 ; -1.11,-4.265 -1.11,-1.735 ; -1.11,-0.265 -1.11,2.265 ; -1.11,3.735 -1.11,6.265 ; -1.11,7.735 -1.11,10.265 ; -1.11,11.735 -1.11,14.265 ; -1.11,15.735 -1.11,18.265 ; -1.11,19.735 -1.11,22.265 ; -1.11,23.735 -1.11,26.265 ; -1.11,27.735 -1.11,30.265 ; -1.11,31.735 -1.11,34.265 ; 1.11,-34.265 1.11,-31.735 ; 1.11,-30.265 1.11,-27.735 ; 1.11,-26.265 1.11,-23.735 ; 1.11,-22.265 1.11,-19.735 ; 1.11,-18.265 1.11,-15.735 ; 1.11,-14.265 1.11,-11.735 ; 1.11,-10.265 1.11,-7.735 ; 1.11,-6.265 1.11,-3.735 ; 1.11,-2.265 1.11,0.265 ; 1.11,1.735 1.11,4.265 ; 1.11,5.735 1.11,8.265 ; 1.11,9.735 1.11,12.265 ; 1.11,13.735 1.11,16.265 ; 1.11,17.735 1.11,20.265 ; 1.11,21.735 1.11,24.265 ; 1.11,25.735 1.11,28.265 ; 1.11,29.735 1.11,32.265 ; 1.11,33.735 1.11,35.735
Top Assembly:
  lines w0.254: -1,-33.25 -2.1,-33.25 -2.1,-32.75 -1,-32.75 ; -1,-29.25 -2.1,-29.25 -2.1,-28.75 -1,-28.75 ; -1,-25.25 -2.1,-25.25 -2.1,-24.75 -1,-24.75 ; -1,-21.25 -2.1,-21.25 -2.1,-20.75 -1,-20.75 ; -1,-17.25 -2.1,-17.25 -2.1,-16.75 -1,-16.75 ; -1,-13.25 -2.1,-13.25 -2.1,-12.75 -1,-12.75 ; -1,-9.25 -2.1,-9.25 -2.1,-8.75 -1,-8.75 ; -1,-5.25 -2.1,-5.25 -2.1,-4.75 -1,-4.75 ; -1,-1.25 -2.1,-1.25 -2.1,-0.75 -1,-0.75 ; -1,2.75 -2.1,2.75 -2.1,3.25 -1,3.25 ; -1,6.75 -2.1,6.75 -2.1,7.25 -1,7.25 ; -1,10.75 -2.1,10.75 -2.1,11.25 -1,11.25 ; -1,14.75 -2.1,14.75 -2.1,15.25 -1,15.25 ; -1,18.75 -2.1,18.75 -2.1,19.25 -1,19.25 ; -1,22.75 -2.1,22.75 -2.1,23.25 -1,23.25 ; -1,26.75 -2.1,26.75 -2.1,27.25 -1,27.25 ; -1,30.75 -2.1,30.75 -2.1,31.25 -1,31.25 ; -1,34.75 -2.1,34.75 -2.1,35.25 -1,35.25 ; 1,-35.25 2.1,-35.25 2.1,-34.75 1,-34.75 ; 1,-31.25 2.1,-31.25 2.1,-30.75 1,-30.75 ; 1,-27.25 2.1,-27.25 2.1,-26.75 1,-26.75 ; 1,-23.25 2.1,-23.25 2.1,-22.75 1,-22.75 ; 1,-19.25 2.1,-19.25 2.1,-18.75 1,-18.75 ; 1,-15.25 2.1,-15.25 2.1,-14.75 1,-14.75 ; 1,-11.25 2.1,-11.25 2.1,-10.75 1,-10.75 ; 1,-7.25 2.1,-7.25 2.1,-6.75 1,-6.75 ; 1,-3.25 2.1,-3.25 2.1,-2.75 1,-2.75 ; 1,0.75 2.1,0.75 2.1,1.25 1,1.25 ; 1,4.75 2.1,4.75 2.1,5.25 1,5.25 ; 1,8.75 2.1,8.75 2.1,9.25 1,9.25 ; 1,12.75 2.1,12.75 2.1,13.25 1,13.25 ; 1,16.75 2.1,16.75 2.1,17.25 1,17.25 ; 1,20.75 2.1,20.75 2.1,21.25 1,21.25 ; 1,24.75 2.1,24.75 2.1,25.25 1,25.25 ; 1,28.75 2.1,28.75 2.1,29.25 1,29.25 ; 1,32.75 2.1,32.75 2.1,33.25 1,33.25 ; -1,35.25 -1,-36 1,-36 1,36 -0.25,36 -1,35.25
  text "'.Designator'" at 0.84,-4.047 h1
Top Courtyard:
  lines w0.254: -2.85,-36.5 2.85,-36.5 2.85,36.5 -2.85,36.5 -2.85,-36.5
Top Designator:
  text ".Designator" at -7.618,-0.508 h1.52

## PinHeader_1x36_P2.00mm_Vertical_SMD_Pin1Right [mm]
pads (36):
  rect 2.35x0.85 smd: 1(1.175,35) 2(-1.175,33) 3(1.175,31) 4(-1.175,29) 5(1.175,27) 6(-1.175,25) 7(1.175,23) 8(-1.175,21) 9(1.175,19) 10(-1.175,17) 11(1.175,15) 12(-1.175,13) 13(1.175,11) 14(-1.175,9) 15(1.175,7) 16(-1.175,5) 17(1.175,3) 18(-1.175,1) 19(1.175,-1) 20(-1.175,-3) 21(1.175,-5) 22(-1.175,-7) 23(1.175,-9) 24(-1.175,-11) 25(1.175,-13) 26(-1.175,-15) 27(1.175,-17) 28(-1.175,-19) 29(1.175,-21) 30(-1.175,-23) 31(1.175,-25) 32(-1.175,-27) 33(1.175,-29) 34(-1.175,-31) 35(1.175,-33) 36(-1.175,-35)
F.SilkS:
  lines w0.254: -1.11,-35.735 -1.11,-36.11 1.11,-36.11 1.11,-33.735 ; -1.11,-34.265 -1.11,-31.735 ; -1.11,-30.265 -1.11,-27.735 ; -1.11,-26.265 -1.11,-23.735 ; -1.11,-22.265 -1.11,-19.735 ; -1.11,-18.265 -1.11,-15.735 ; -1.11,-14.265 -1.11,-11.735 ; -1.11,-10.265 -1.11,-7.735 ; -1.11,-6.265 -1.11,-3.735 ; -1.11,-2.265 -1.11,0.265 ; -1.11,1.735 -1.11,4.265 ; -1.11,5.735 -1.11,8.265 ; -1.11,9.735 -1.11,12.265 ; -1.11,13.735 -1.11,16.265 ; -1.11,17.735 -1.11,20.265 ; -1.11,21.735 -1.11,24.265 ; -1.11,25.735 -1.11,28.265 ; -1.11,29.735 -1.11,32.265 ; -1.11,35.735 -1.11,33.735 -1.11,36.11 1.11,36.11 1.11,35.735 2.29,35.735 ; 1.11,-32.265 1.11,-29.735 ; 1.11,-28.265 1.11,-25.735 ; 1.11,-24.265 1.11,-21.735 ; 1.11,-20.265 1.11,-17.735 ; 1.11,-16.265 1.11,-13.735 ; 1.11,-12.265 1.11,-9.735 ; 1.11,-8.265 1.11,-5.735 ; 1.11,-4.265 1.11,-1.735 ; 1.11,-0.265 1.11,2.265 ; 1.11,3.735 1.11,6.265 ; 1.11,7.735 1.11,10.265 ; 1.11,11.735 1.11,14.265 ; 1.11,15.735 1.11,18.265 ; 1.11,19.735 1.11,22.265 ; 1.11,23.735 1.11,26.265 ; 1.11,27.735 1.11,30.265 ; 1.11,31.735 1.11,34.265
Top Assembly:
  lines w0.254: -1,-35.25 -2.1,-35.25 -2.1,-34.75 -1,-34.75 ; -1,-31.25 -2.1,-31.25 -2.1,-30.75 -1,-30.75 ; -1,-27.25 -2.1,-27.25 -2.1,-26.75 -1,-26.75 ; -1,-23.25 -2.1,-23.25 -2.1,-22.75 -1,-22.75 ; -1,-19.25 -2.1,-19.25 -2.1,-18.75 -1,-18.75 ; -1,-15.25 -2.1,-15.25 -2.1,-14.75 -1,-14.75 ; -1,-11.25 -2.1,-11.25 -2.1,-10.75 -1,-10.75 ; -1,-7.25 -2.1,-7.25 -2.1,-6.75 -1,-6.75 ; -1,-3.25 -2.1,-3.25 -2.1,-2.75 -1,-2.75 ; -1,0.75 -2.1,0.75 -2.1,1.25 -1,1.25 ; -1,4.75 -2.1,4.75 -2.1,5.25 -1,5.25 ; -1,8.75 -2.1,8.75 -2.1,9.25 -1,9.25 ; -1,12.75 -2.1,12.75 -2.1,13.25 -1,13.25 ; -1,16.75 -2.1,16.75 -2.1,17.25 -1,17.25 ; -1,20.75 -2.1,20.75 -2.1,21.25 -1,21.25 ; -1,24.75 -2.1,24.75 -2.1,25.25 -1,25.25 ; -1,28.75 -2.1,28.75 -2.1,29.25 -1,29.25 ; -1,32.75 -2.1,32.75 -2.1,33.25 -1,33.25 ; 1,-33.25 2.1,-33.25 2.1,-32.75 1,-32.75 ; 1,-29.25 2.1,-29.25 2.1,-28.75 1,-28.75 ; 1,-25.25 2.1,-25.25 2.1,-24.75 1,-24.75 ; 1,-21.25 2.1,-21.25 2.1,-20.75 1,-20.75 ; 1,-17.25 2.1,-17.25 2.1,-16.75 1,-16.75 ; 1,-13.25 2.1,-13.25 2.1,-12.75 1,-12.75 ; 1,-9.25 2.1,-9.25 2.1,-8.75 1,-8.75 ; 1,-5.25 2.1,-5.25 2.1,-4.75 1,-4.75 ; 1,-1.25 2.1,-1.25 2.1,-0.75 1,-0.75 ; 1,2.75 2.1,2.75 2.1,3.25 1,3.25 ; 1,6.75 2.1,6.75 2.1,7.25 1,7.25 ; 1,10.75 2.1,10.75 2.1,11.25 1,11.25 ; 1,14.75 2.1,14.75 2.1,15.25 1,15.25 ; 1,18.75 2.1,18.75 2.1,19.25 1,19.25 ; 1,22.75 2.1,22.75 2.1,23.25 1,23.25 ; 1,26.75 2.1,26.75 2.1,27.25 1,27.25 ; 1,30.75 2.1,30.75 2.1,31.25 1,31.25 ; 1,34.75 2.1,34.75 2.1,35.25 1,35.25 ; 1,35.25 1,-36 -1,-36 -1,36 0.25,36 1,35.25
  text "'.Designator'" at 0.84,-4.047 h1
Top Courtyard:
  lines w0.254: -2.85,-36.5 2.85,-36.5 2.85,36.5 -2.85,36.5 -2.85,-36.5
Top Designator:
  text ".Designator" at -7.618,-0.508 h1.52

## PinHeader_1x37_P2.00mm_Horizontal [mm]
pads (37):
  rect 1.35x1.35 hole 0.8: 1(0,0)
  round 1.35 hole 0.8: 2(0,-2) 3(0,-4) 4(0,-6) 5(0,-8) 6(0,-10) 7(0,-12) 8(0,-14) 9(0,-16) 10(0,-18) 11(0,-20) 12(0,-22) 13(0,-24) 14(0,-26) 15(0,-28) 16(0,-30) 17(0,-32) 18(0,-34) 19(0,-36) 20(0,-38) 21(0,-40) 22(0,-42) 23(0,-44) 24(0,-46) 25(0,-48) 26(0,-50) 27(0,-52) 28(0,-54) 29(0,-56) 30(0,-58) 31(0,-60) 32(0,-62) 33(0,-64) 34(0,-66) 35(0,-68) 36(0,-70) 37(0,-72)
F.SilkS:
  drawing of 228 lines, arcs and shapes, not listed
Top Assembly:
  drawing of 227 lines, arcs and shapes, not listed
  text "'.Designator'" at 3.006,-39.642 h0.9
Top Courtyard:
  lines w0.254: -1.5,-73.5 7.7,-73.5 7.7,1.5 -1.5,1.5 -1.5,-73.5
Top Designator:
  text ".Designator" at -4.518,-36.508 h1.52

## PinHeader_1x37_P2.00mm_Vertical [mm]
pads (37):
  rect 1.35x1.35 hole 0.8: 1(0,0)
  round 1.35 hole 0.8: 2(0,-2) 3(0,-4) 4(0,-6) 5(0,-8) 6(0,-10) 7(0,-12) 8(0,-14) 9(0,-16) 10(0,-18) 11(0,-20) 12(0,-22) 13(0,-24) 14(0,-26) 15(0,-28) 16(0,-30) 17(0,-32) 18(0,-34) 19(0,-36) 20(0,-38) 21(0,-40) 22(0,-42) 23(0,-44) 24(0,-46) 25(0,-48) 26(0,-50) 27(0,-52) 28(0,-54) 29(0,-56) 30(0,-58) 31(0,-60) 32(0,-62) 33(0,-64) 34(0,-66) 35(0,-68) 36(0,-70) 37(0,-72)
F.SilkS:
  lines w0.254: -1.11,0 -1.11,1.11 0,1.11 ; -1.11,-73.11 1.11,-73.11 1.11,-1 -1.11,-1 -1.11,-73.11
Top Assembly:
  lines w0.254: -1,-73 1,-73 1,1 -0.5,1 -1,0.5 -1,-73
  text "'.Designator'" at 0.84,-40.047 h1
Top Courtyard:
  lines w0.254: -1.5,-73.5 1.5,-73.5 1.5,1.5 -1.5,1.5 -1.5,-73.5
Top Designator:
  text ".Designator" at -7.618,-36.508 h1.52